# Altium schematic symbol library BrewController.SchLib: 19 symbols
Pins are listed as number, name and electrical type; pins without a type are passive.

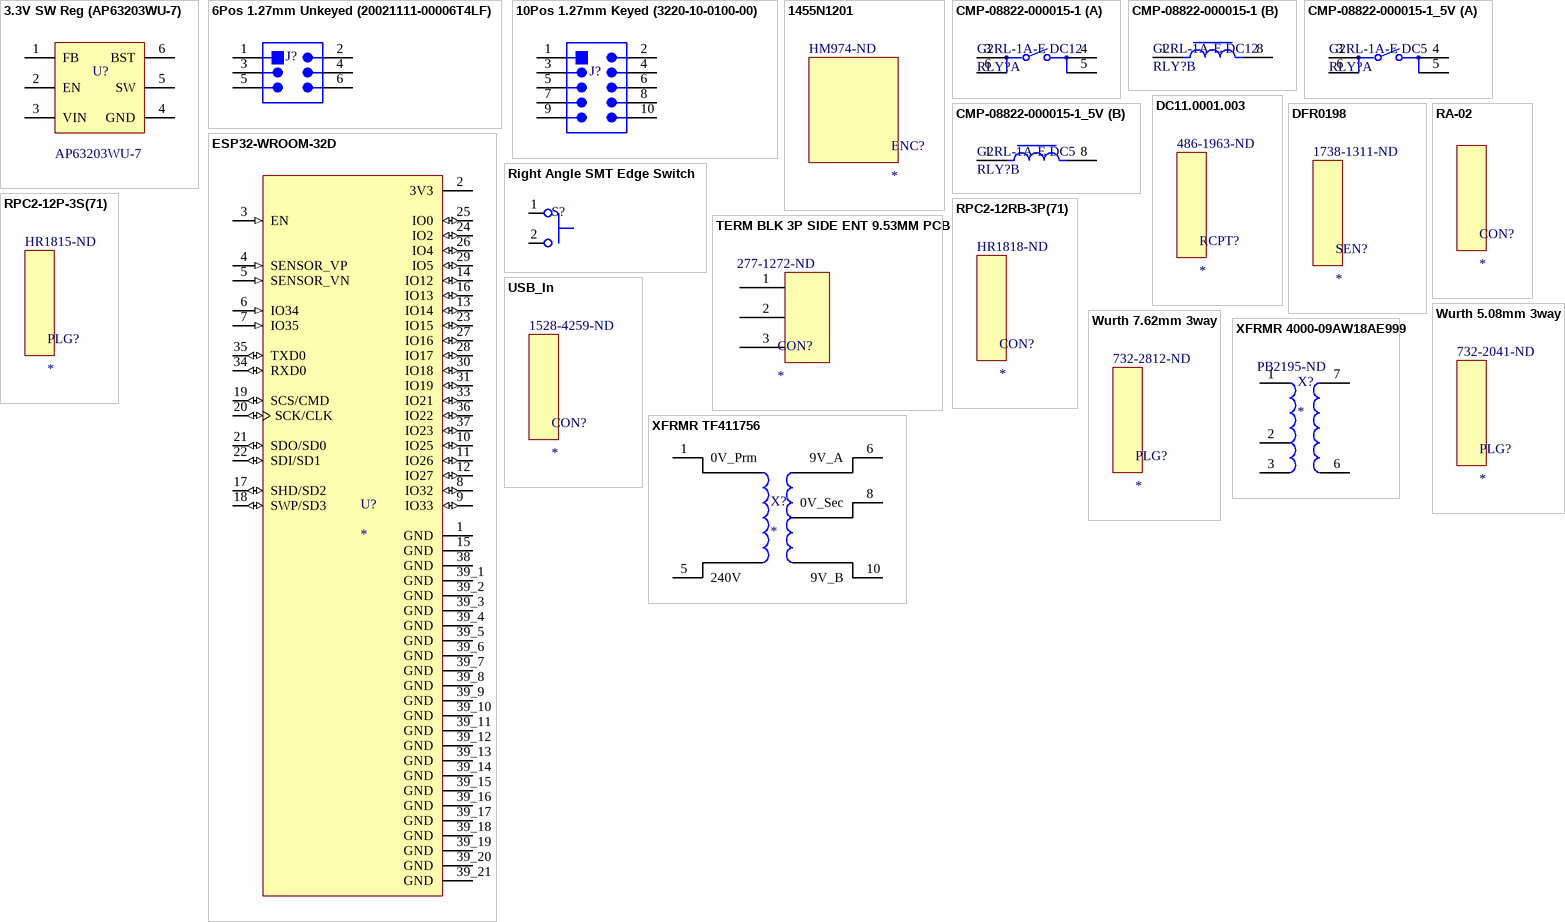
[diagram p0: symbols 3.3V SW Reg (AP63203WU-7) to XFRMR TF411756]

## 3.3V SW Reg (AP63203WU-7)
designator U?  Manufacturer Part Number 1: AP63203WU-7  (hidden comment: *)
AP63203 Series 3.3 V 2 A SMT Fixed Low IQ Synchronous Buck - TSOT-26; Manufacturer 1: Diodes; Supplier 1: Digi-Key; Supplier Part Number 1: AP63203WU-7DICT-ND; Stock 1: 6063; Pricing 1: 1=0.83000, 10=0.74500, 25=0.70720, 100=0.54290, 250=0.47976, 500=0.45450, 1000=0.35350 (USD); RoHS: No; ComponentLink1Description: https://datasheet.octopart.com/AP63203WU-7-Diodes-Inc.-datasheet-130008827.pdf; ComponentLink1URL: https://datasheet.octopart.com/AP63203WU-7-Diodes-Inc.-datasheet-130008827.pdf; ComponentLink2Description: https://sigma.octopart.com/138799930/technical_drawing/Diodes-Inc.-AP63203WU-7.pdf; ComponentLink2URL: https://sigma.octopart.com/138799930/technical_drawing/Diodes-Inc.-AP63203WU-7.pdf
footprint TSOT26
pins: 1 FB, 2 EN, 3 VIN, 4 GND, 5 SW, 6 BST

## 6Pos 1.27mm Unkeyed (20021111-00006T4LF)
designator J?  (value not drawn)
CONN HEADER 6POS UNSHD VERT T/H; Manufacturer 1: Amphenol FCI; Manufacturer Part Number 1: 20021111-00006T4LF; Number of Contacts: 6; Max Voltage Rating (AC): 125V; Insulation Resistance: 100MR; Connector Type: Male Pin,Header; Gender: Male; Contact Resistance: 30mR; Current Rating: 6A; Pitch: 1.27mm; Contact Post Length: 2.3mm; Row Spacing: 0.05inch; Supplier 1: Digi-Key; Supplier Part Number 1: 609-3710-ND; Stock 1: 10181; Pricing 1: 1=0.42000, 10=0.39200, 100=0.30080, 500=0.26160, 1000=0.21582, 5000=0.18966, 10000=0.17658 (USD); RoHS: Yes; Mount: Through Hole; Contact Plating: Gold; Housing Material: Thermoplastic; Contact Material: Nickel,Copper Alloy,Copper,Gold; Color: Black; Housing Color: Black; Min Operating Temperature: -40°C; Max Operating Temperature: 85°C; Termination: Solder; Number of Rows: 2; Packaging: Rail/Tube; Package Quantity: 153; Voltage Rating: 125V; Orientation: Straight; Number of Positions: 6; Length: 3.81mm; Depth: 3.4mm; Contact Mating Length: 0.12inch; REACH SVHC: No SVHC; Lead Free: Lead Free; ComponentLink1URL: https://datasheet.ciiva.com/1433/1079612-1433265.pdf?src-supplier=Element14; ComponentLink1Description: https://datasheet.ciiva.com/1433/1079612-1433265.pdf?src-supplier=Element14; ComponentLink2URL: https://datasheet.ciiva.com/10033/20021111-10033816.pdf?src-supplier=Avnet; ComponentLink2Description: https://datasheet.ciiva.com/10033/20021111-10033816.pdf?src-supplier=Avnet; ComponentLink3URL: https://datasheet.ciiva.com/409/20021111-409250.pdf?src-supplier=Digi-Key; ComponentLink3Description: https://datasheet.ciiva.com/409/20021111-409250.pdf?src-supplier=Digi-Key; ComponentLink4URL: https://datasheet.ciiva.com/5131/20021111-5131319.pdf?src-supplier=Mouser; ComponentLink4Description: https://datasheet.ciiva.com/5131/20021111-5131319.pdf?src-supplier=Mouser
footprint 6Pos_1.27_Keyed
pins: 1, 2, 3, 4, 5, 6

## 10Pos 1.27mm Keyed (3220-10-0100-00)
designator J?  (value not drawn)
CONN HEADER VERT 10POS 1.27MM; Manufacturer 1: CNC Tech; Manufacturer Part Number 1: 3220-10-0100-00; Connector Type: Male Pin; Number of Positions: 10; Pitch: 0.05inch; Supplier 1: Digi-Key; Supplier Part Number 1: 1175-1627-ND; Stock 1: 48941; Pricing 1: 1=0.58000, 10=0.54000, 100=0.41400, 500=0.36000, 1000=0.29700, 5000=0.26100, 10000=0.24300 (USD); RoHS: Yes; Mount: Through Hole; Contact Plating: Gold; Package Quantity: 3200; Packaging: Tray; Number of Rows: 2; Termination: Solder; Row Spacing: 0.05inch; ComponentLink1URL: https://datasheet.ciiva.com/18655/3220-xx-0100-00-18655342.pdf?src-supplier=Digi-Key; ComponentLink1Description: https://datasheet.ciiva.com/18655/3220-xx-0100-00-18655342.pdf?src-supplier=Digi-Key
footprint 10pos_1.27_Keyed
pins: 1, 2, 3, 4, 5, 6, 7, 8, 9, 10

## 1455N1201
designator ENC?  Supplier Part Number 1: HM974-ND
HAMMOND         1455N1201            Enclosure, 1455 Series, Extruded With Metal End Panels, PCB Box, 53 mm, 103 mm, 120 mm, Aluminium; Manufacturer: Hammond Manufacturing; Ratings: IP40; Supplier 1: Digi-Key; Manufacturer Part Number: 1455N1201; RoHS: Yes; Category: Enclosures; Stock 1: 42; Case/Package: Metal; Weight: 0.66lb; Color: Clear,Black,Natural; Material: Aluminium,Metal; Housing Material: Aluminium; Body Material: Aluminium; Package Quantity: 1; Length: 4.724inch; Height: 2.087inch; Width: 4.06inch; Thickness: 0.06inch; REACH SVHC: No SVHC; ComponentLink1URL: https://datasheet.ciiva.com/4630/1455n1201-83616-4630121.pdf?src-supplier=Mouser; ComponentLink1Description: https://datasheet.ciiva.com/4630/1455n1201-83616-4630121.pdf?src-supplier=Mouser; ComponentLink2URL: https://datasheet.ciiva.com/20197/30-1572-20197097.pdf?src-supplier=Rapid+Electronics; ComponentLink2Description: https://datasheet.ciiva.com/20197/30-1572-20197097.pdf?src-supplier=Rapid+Electronics

## CMP-08822-000015-1
designator RLY?, comment G2RL-1A-E DC12
RELAY GEN PURPOSE SPST 16A 12V; Manufacturer: Omron; Manufacturer Part Number: G2RL-1A-E DC5; Number Of Contacts: 1; Coil Power: 400mW; Coil Type: Non-Latching; Coil Current: 80mA; Coil Voltage: 5V; Throw Configuration: SPST-NO; Coil Resistance: 62.5Ω; Current Rating: 16A; Ambient Temperature Range Low: -40°C; ComponentLink2URL: https://omronfs.omron.com/en_US/ecb/products/pdf/en-g2rl.pdf; Octopart: https://octopart.com/g2rl-1a-e-dc5-omron-797358; Automotive: No; Device Class L2: Relays; Ambient Temperature Range High: +85°C; Temperature Range Low: -40°C; RoHS: TRUE; ComponentLink2Description: Datasheet; Lead Free: Yes; Device Class L1: Electromechanical; Category: Relay; Temperature: -40°C to +85°C; Digikey Description: RELAY GEN PURPOSE SPST 16A 5V; Height: 15.7mm; Device Class L3: Power Relays; Temperature Range High: +85°C; Package: 0; Switching Current: 16A; Mouser Description: Power Relay 5VDC 16A SPST-NO (( 29mm 12.7mm 15.7mm)) Through Hole
footprint FP-G2RL-1A-E_DC12-MFG
part A pins: 3, 4, 5, 6
part B pins: 1, 8

## CMP-08822-000015-1_5V
designator RLY?, comment G2RL-1A-E DC5
RELAY GEN PURPOSE SPST 16A 5V; Manufacturer: Omron; Number Of Contacts: 1; Coil Power: 400mW; Coil Type: Non-Latching; Coil Current: 80mA; Throw Configuration: SPST-NO; Coil Resistance: 62.5Ω; Current Rating: 16A; Ambient Temperature Range Low: -40°C; ComponentLink2URL: https://omronfs.omron.com/en_US/ecb/products/pdf/en-g2rl.pdf; Octopart: https://octopart.com/g2rl-1a-e-dc5-omron-797358; Automotive: No; Device Class L2: Relays; Ambient Temperature Range High: +85°C; Temperature Range Low: -40°C; RoHS: TRUE; ComponentLink2Description: Datasheet; Lead Free: Yes; Device Class L1: Electromechanical; Coil Voltage: 5V; Category: Relay; Manufacturer Part Number: G2RL-1A-E DC5; Temperature: -40°C to +85°C; Digikey Description: RELAY GEN PURPOSE SPST 16A 5V; Height: 15.7mm; Device Class L3: Power Relays; Temperature Range High: +85°C; Package: 0; Switching Current: 16A; Mouser Description: Power Relay 5VDC 16A SPST-NO (( 29mm 12.7mm 15.7mm)) Through Hole
footprint FP-G2RL-1A-E_DC12-MFG
part A pins: 3, 4, 5, 6
part B pins: 1, 8

## DC11.0001.003
designator RCPT?  Supplier Part Number 1: 486-1963-ND
Plug C14 Faston 4.8 x 0.8 mm 10 A/250 VAC black Screw mounting L + N + PE, DC11.0001.003, Schurter; Number of Contacts: 3; Max Voltage Rating (AC): 250V; Current Rating: 12A; Gender: Male; Fuse: No; Connector Type: Receptacle; Number of Ports: 1; Throw Configuration: SPST; Ratings: IP40; Approvals: cULus,ENEC,CCC; Supplier 1: Digi-Key; Manufacturer: Schurter; Manufacturer Part Number: DC11.0001.003; RoHS: Yes; Category: Power Connectors; Stock 1: 1159; Mount: Panel,Flanges,Screw,Snap in; Case/Package: Module; Weight: 0.599657oz; Housing Material: Thermoplastic; Color: Black; Min Operating Temperature: -25°C; Max Operating Temperature: 70°C; Termination: Quick Connect; Voltage Rating (AC): 250V; Orientation: Straight; Number of Positions: 3; Current: 12A; Voltage: 250V; Package Quantity: 50; Voltage Rating: 250V; Voltage Rating (DC): 250V; Max Current Rating: 12A; Packaging: Bulk; Number of Poles: 1; Type: Switch; Length: 44mm; Depth: 36.5mm; Radiation Hardening: No; REACH SVHC: No SVHC; Flammability Rating: UL94 V-0; Lead Free: Lead Free; ComponentLink1URL: https://datasheet.ciiva.com/6926/typ-dc11-6926800.pdf?src-supplier=Digi-Key; ComponentLink1Description: https://datasheet.ciiva.com/6926/typ-dc11-6926800.pdf?src-supplier=Digi-Key; ComponentLink2URL: https://datasheet.ciiva.com/11728/0900766b8050470e-11728225.pdf?src-supplier=RSComponents; ComponentLink2Description: https://datasheet.ciiva.com/11728/0900766b8050470e-11728225.pdf?src-supplier=RSComponents; ComponentLink3URL: https://datasheet.ciiva.com/16089/57typ-wire-harness-16089619.pdf?src-supplier=Onlinecomponents.com; ComponentLink3Description: https://datasheet.ciiva.com/16089/57typ-wire-harness-16089619.pdf?src-supplier=Onlinecomponents.com; ComponentLink4URL: https://datasheet.ciiva.com/3147/typ-wire-harness-3147526.pdf?src-supplier=Avnet; ComponentLink4Description: https://datasheet.ciiva.com/3147/typ-wire-harness-3147526.pdf?src-supplier=Avnet; ComponentLink5URL: https://datasheet.ciiva.com/3345/zjdc11-data-e-3345370.pdf?src-supplier=Distrelec; ComponentLink5Description: https://datasheet.ciiva.com/3345/zjdc11-data-e-3345370.pdf?src-supplier=Distrelec; ComponentLink6URL: https://datasheet.ciiva.com/16645/typ-wire-harness-16645711.pdf?src-supplier=Avnet+Europe; ComponentLink6Description: https://datasheet.ciiva.com/16645/typ-wire-harness-16645711.pdf?src-supplier=Avnet+Europe; ComponentLink7URL: https://datasheet.ciiva.com/14570/70080071-14570935.pdf?src-supplier=Allied+Electronics; ComponentLink7Description: https://datasheet.ciiva.com/14570/70080071-14570935.pdf?src-supplier=Allied+Electronics; ComponentLink8URL: https://datasheet.ciiva.com/30127/typ-dc11-30127048.pdf?src-supplier=Onlinecomponents.com; ComponentLink8Description: https://datasheet.ciiva.com/30127/typ-dc11-30127048.pdf?src-supplier=Onlinecomponents.com; ComponentLink9URL: https://datasheet.ciiva.com/16346/typ-dc11-16346954.pdf?src-supplier=Future+Electronics; ComponentLink9Description: https://datasheet.ciiva.com/16346/typ-dc11-16346954.pdf?src-supplier=Future+Electronics; ComponentLink10URL: https://datasheet.ciiva.com/4582/typ-dc11-4582700.pdf?src-supplier=Mouser; ComponentLink10Description: https://datasheet.ciiva.com/4582/typ-dc11-4582700.pdf?src-supplier=Mouser; ComponentLink11URL: https://datasheet.ciiva.com/8067/1712870-8067007.pdf?src-supplier=Element14; ComponentLink11Description: https://datasheet.ciiva.com/8067/1712870-8067007.pdf?src-supplier=Element14
footprint DC11.0001.003

## DFR0198
designator SEN?  Supplier Part Number 1: 1738-1311-ND
Waterproof DS18B20 Digital Temperature Sensor for Arduino; Manufacturer: DFRobot; Manufacturer Part Number: DFR0198; Supplier 1: Digi-Key; RoHS: No; Category: Temperature and Humidity Sensors; Stock 1: 602; Min Operating Temperature: -55°C; Max Operating Temperature: 125°C; ComponentLink1URL: https://media.digikey.com/pdf/Data%20Sheets/DFRobot%20PDFs/DFR0198_Web.pdf?src-supplier=Digi-Key; ComponentLink1Description: https://media.digikey.com/pdf/Data%20Sheets/DFRobot%20PDFs/DFR0198_Web.pdf?src-supplier=Digi-Key

## ESP32-WROOM-32D
designator U?
ESP32-WROOM-32D; Manufacturer 1: Espressif Systems; Interface: I2C,SPI,GPIO,PWM,SDIO,UART; Frequency: 2.5GHz; Data Rate: 150Mbps; Sensitivity: -98dBm; Memory Size: 536KB; Supplier 1: Digi-Key; Supplier Part Number 1: 1904-1023-1-ND; Manufacturer Part Number 1: ESP32-WROOM-32D; Stock 1: 1335; Pricing 1: 1=3.80000 (USD); RoHS: No; Mount: Surface Mount; Case/Package: SMD/SMT; Min Operating Temperature: -40°C; Max Operating Temperature: 85°C; Packaging: Cut Tape; ComponentLink1URL: https://www.espressif.com/sites/default/files/documentation/esp32-wroom-32d_esp32-wroom-32u_datasheet_en.pdf?src-supplier=Digi-Key; ComponentLink1Description: https://www.espressif.com/sites/default/files/documentation/esp32-wroom-32d_esp32-wroom-32u_datasheet_en.pdf?src-supplier=Digi-Key
footprint *MODULE_ESP32-WROOM-32D_ESP32-WROOM-32D(Primary)
pins: 1 GND (power), 2 3V3 (power), 3 EN (in), 4 SENSOR_VP (in), 5 SENSOR_VN (in), 6 IO34 (in), 7 IO35 (in), 8 IO32 (io), 9 IO33 (io), 10 IO25 (io), 11 IO26 (io), 12 IO27 (io), 13 IO14 (io), 14 IO12 (io), 15 GND (power), 16 IO13 (io), 17 SHD/SD2 (io), 18 SWP/SD3 (io), 19 SCS/CMD (io), 20 SCK/CLK (io), 21 SDO/SD0 (io), 22 SDI/SD1 (io), 23 IO15 (io), 24 IO2 (io), 25 IO0 (io), 26 IO4 (io), 27 IO16 (io), 28 IO17 (io), 29 IO5 (io), 30 IO18 (io), 31 IO19 (io), 33 IO21 (io), 34 RXD0 (io), 35 TXD0 (io), 36 IO22 (io), 37 IO23 (io), 38 GND (power), 39_1 GND (power), 39_2 GND (power), 39_3 GND (power), 39_4 GND (power), 39_5 GND (power), 39_6 GND (power), 39_7 GND (power), 39_8 GND (power), 39_9 GND (power), 39_10 GND (power), 39_11 GND (power), 39_12 GND (power), 39_13 GND (power), 39_14 GND (power), 39_15 GND (power), 39_16 GND (power), 39_17 GND (power), 39_18 GND (power), 39_19 GND (power), 39_20 GND (power), 39_21 GND (power)

## RA-02
designator CON?
Panel mount mains output socket
footprint RA-02

## Right Angle SMT Edge Switch
designator S?  (value not drawn)
RIGHT ANGLE SMT TACT SWITCH 2.0M; Manufacturer 1: E-Switch; Manufacturer Part Number 1: TL4110AF160Q; Mechanical Life: 300000Cycles; Throw Configuration: SPST; Illumination Type: Non-Illuminated; Switch Function: Off-Mom; Actuator Type: Standard; Operating Force: 160gf; Switch Travel: 0.13mm; Supplier 1: Digi-Key; Supplier Part Number 1: EG5545CT-ND; RoHS: No; Category: Tactile Switches; Stock 1: 4401; Pricing 1: 1=0.70000, 10=0.67200, 25=0.64640, 100=0.56090, 250=0.51184, 500=0.47564, 1000=0.42653, 2500=0.40068 (USD); Mount: Edge; Min Operating Temperature: -40°C; Max Operating Temperature: 85°C; Packaging: Tape and Reel; Termination: Gull Wing; ComponentLink1URL: https://media.digikey.com/pdf/Data%20Sheets/E-Switch%20PDFs/TL4110_Series_Tact_Switch.pdf?src-supplier=Digi-Key; ComponentLink1Description: https://media.digikey.com/pdf/Data%20Sheets/E-Switch%20PDFs/TL4110_Series_Tact_Switch.pdf?src-supplier=Digi-Key
footprint TL4110 Edge Connector
pins: 1, 2

## RPC2-12P-3S(71)
designator PLG?  Supplier Part Number 1: HR1815-ND
CONN PLUG 3 POS W/SOCKETS; Manufacturer: Hirose; Manufacturer Part Number: RPC2-12P-3S(71); Number of Positions: 3; Current Rating: 5A; Voltage Rating: 250V; Supplier 1: Digi-Key; RoHS: Yes; Category: Circular Connectors; Stock 1: 1316; Mount: Free Hanging,Cable; Color: Blue; Contact Material: Bronze; Contact Plating: Silver; Insulation Material: Plastic; Shell Material: Plastic; Min Operating Temperature: -10°C; Max Operating Temperature: 60°C; Termination: Solder; Connector Type: Plug; Package Quantity: 50; Fastening Type: Push,Pull; Packaging: Tray; Number of Contacts: 3; Contact Gender: Female; Orientation: Straight; Radiation Hardening: No; Lead Free: Lead Free; ComponentLink1URL: https://datasheet.ciiva.com/549/e11300018-549107.pdf?src-supplier=Digi-Key; ComponentLink1Description: https://datasheet.ciiva.com/549/e11300018-549107.pdf?src-supplier=Digi-Key; ComponentLink2URL: https://datasheet.ciiva.com/3103/e11300018-3103307.pdf?src-supplier=Avnet; ComponentLink2Description: https://datasheet.ciiva.com/3103/e11300018-3103307.pdf?src-supplier=Avnet; ComponentLink3URL: https://datasheet.ciiva.com/16752/e11300018-16752447.pdf?src-supplier=Avnet+Europe; ComponentLink3Description: https://datasheet.ciiva.com/16752/e11300018-16752447.pdf?src-supplier=Avnet+Europe
footprint RPC2-12RB-3P(71)

## RPC2-12RB-3P(71)
designator CON?  Supplier Part Number 1: HR1818-ND
CONN RECEPT 3 POS W/PINS; Manufacturer: Hirose; Manufacturer Part Number: RPC2-12RB-3P(71); Body Material: Nylon,Polyamide; Number of Positions: 3; Connector Type: Receptacle,Power,Standard; Strain Relief: No (Without); Voltage Rating (DC): 250V; Max Current Rating: 5A; Gender: Female; Supplier 1: Digi-Key; RoHS: Yes; Category: Circular Connectors; Stock 1: 1446; Mount: Panel,Flanges; Color: Blue; Contact Plating: Silver; Contact Material: Brass; Insulation Material: Plastic; Housing Material: Nylon; Shell Material: Plastic; Min Operating Temperature: -10°C; Max Operating Temperature: 60°C; Termination: Solder; Orientation: Straight; Package Quantity: 200; Fastening Type: Push,Pull; Packaging: Tray; Number of Contacts: 3; Voltage Rating: 250V; Current Rating: 5A; Contact Gender: Male; Length: 22.5mm; Depth: 19mm; Radiation Hardening: No; Lead Free: Lead Free; REACH SVHC: No SVHC; ComponentLink1URL: https://datasheet.ciiva.com/23583/26784-23583632.pdf?src-supplier=Newark; ComponentLink1Description: https://datasheet.ciiva.com/23583/26784-23583632.pdf?src-supplier=Newark; ComponentLink2URL: https://datasheet.ciiva.com/11736/0900766b80fd13c3-11736797.pdf?src-supplier=RSComponents; ComponentLink2Description: https://datasheet.ciiva.com/11736/0900766b80fd13c3-11736797.pdf?src-supplier=RSComponents; ComponentLink3URL: https://datasheet.ciiva.com/575/e11300018-575862.pdf?src-supplier=Digi-Key; ComponentLink3Description: https://datasheet.ciiva.com/575/e11300018-575862.pdf?src-supplier=Digi-Key; ComponentLink4URL: https://datasheet.ciiva.com/7651/26784-7651897.pdf?src-supplier=Element14; ComponentLink4Description: https://datasheet.ciiva.com/7651/26784-7651897.pdf?src-supplier=Element14; ComponentLink5URL: https://datasheet.ciiva.com/16752/e11300018-16752460.pdf?src-supplier=Avnet+Europe; ComponentLink5Description: https://datasheet.ciiva.com/16752/e11300018-16752460.pdf?src-supplier=Avnet+Europe

## TERM BLK 3P SIDE ENT 9.53MM PCB
designator CON?  Supplier Part Number 1: 277-1272-ND
TERM BLK 3P SIDE ENT 9.53MM PCB; Manufacturer: Phoenix Contact; Manufacturer Part Number: 1714984; Max Supply Voltage: 690V; Number of Positions: 3; Max Current Rating: 32A; Voltage Rating: 1kV; Number of Levels: 1; Current: 30A; Voltage: 600V; Connector Type: PCB,Terminal Block; Gender: Male; Stripping Length: 8mm; Wire Gauge (Max): 24AWG; Pitch: 9.5mm; Approvals: UL,CSA,cULus; Supplier 1: Digi-Key; RoHS: Yes; Category: Terminal Blocks; Stock 1: 5148; Mount: Through Hole; Number of Pins: 3; Weight: 0.336161oz; Housing Material: Polyamide; Contact Material: Tin; Housing Color: Green; Color: Green; Insulation Material: Nylon; Material: Polyamide; Package Quantity: 50; Packaging: Bulk; Number of Circuits: 3; Orientation: Straight; Number of Rows: 1; Current Rating: 32A; Number of Poles: 3; Termination: Screw; Number of Positions Per Level: 3; Number of Contacts: 3; Length: 28.52mm; Height: 21.5mm; Wire Gauge (Min): 24AWG; Wire/Cable Gauge: 24AWG; Width: 12.5mm; Depth: 12.5mm; Radiation Hardening: No; REACH SVHC: No SVHC; Flammability Rating: UL94 V-0; Lead Free: Lead Free; ComponentLink1URL: https://datasheet.ciiva.com/15169/getdatasheetpartid-136936-15169497.pdf?src-supplier=Verical; ComponentLink1Description: https://datasheet.ciiva.com/15169/getdatasheetpartid-136936-15169497.pdf?src-supplier=Verical; ComponentLink2URL: https://datasheet.ciiva.com/16071/1714984-16071962.pdf?src-supplier=Onlinecomponents.com; ComponentLink2Description: https://datasheet.ciiva.com/16071/1714984-16071962.pdf?src-supplier=Onlinecomponents.com; ComponentLink3URL: https://datasheet.ciiva.com/823/1714984-823804.pdf?src-supplier=Digi-Key; ComponentLink3Description: https://datasheet.ciiva.com/823/1714984-823804.pdf?src-supplier=Digi-Key; ComponentLink4URL: https://datasheet.ciiva.com/1118/100944-1118425.pdf?src-supplier=Element14; ComponentLink4Description: https://datasheet.ciiva.com/1118/100944-1118425.pdf?src-supplier=Element14
footprint CON Phoenix 1714984
pins: 1, 2, 3

## USB_In
designator CON?  Supplier Part Number 1: 1528-4259-ND
Panel mount mains output socket; Manufacturer: Adafruit Industries; Manufacturer Part Number: 4259; Supplier 1: Digi-Key; RoHS: No; Stock 1: 132
footprint Ada4259

## Wurth 5.08mm 3way
designator PLG?  Supplier Part Number 1: 732-2041-ND
TERM BLOCK PLUG 3POS STR 5.08MM; Manufacturer: Wurth Electronics; Manufacturer Part Number: 691351500003; Current Rating: 20A; Number of Positions Per Level: 3; Number of Levels: 1; Voltage: 300V; Pitch: 0.2inch; Wire/Cable Gauge: 24AWG; Wire Gauge (Min): 12AWG; Supplier 1: Digi-Key; RoHS: Yes; Category: Terminal Blocks; Stock 1: 1970; Mount: Free Hanging; Contact Material: Brass; Color: Green; Termination: Screw; Current: 20A; Number of Contacts: 3; Package Quantity: 250; Packaging: Bulk; Voltage Rating: 300V; Length: 18.2mm; Width: 15.24mm; Wire Gauge (Max): 24AWG; REACH SVHC: Unknown; ComponentLink1URL: https://datasheet.ciiva.com/796/6913515000xx-796335.pdf?src-supplier=Digi-Key; ComponentLink1Description: https://datasheet.ciiva.com/796/6913515000xx-796335.pdf?src-supplier=Digi-Key

## Wurth 7.62mm 3way
designator PLG?  Supplier Part Number 1: 732-2812-ND
Socket 3 Poles, 7.62 mm Pitch, 691351400003, Würth Elektronik; Manufacturer: Wurth Electronics; Number of Contacts: 3; Voltage Rating: 300V; Number of Levels: 1; Current: 20A; Wire/Cable Gauge: 24AWG; Pitch: 0.3inch; Wire Gauge (Min): 12AWG; Supplier 1: Digi-Key; Manufacturer Part Number: 691351400003; RoHS: Yes; Category: Terminal Blocks; Stock 1: 167; Mount: Free Hanging; Contact Material: Brass; Color: Green; Termination: Screw; Package Quantity: 130; Packaging: Bulk; Number of Positions Per Level: 3; Voltage: 300V; Current Rating: 20A; Length: 15.1mm; Width: 20.86mm; Wire Gauge (Max): 24AWG; REACH SVHC: Unknown; ComponentLink1URL: https://datasheet.ciiva.com/796/6913514000xx-796220.pdf?src-supplier=Digi-Key; ComponentLink1Description: https://datasheet.ciiva.com/796/6913514000xx-796220.pdf?src-supplier=Digi-Key

## XFRMR 4000-09AW18AE999
designator X?  Supplier Part Number 1: PB2195-ND
TE Connectivity Chassis Current Transformer; Manufacturer Part Number: 4000-09AW18K999; Power Rating: 50W; Nominal Primary Voltage: 240V; Nominal Secondary Voltage: 24V; Element Configuration: Single; Supplier 1: Digi-Key; Manufacturer: TE Connectivity; RoHS: Yes; Category: Power Products; Stock 1: 39; Mount: Chassis Mount,Flanges; Number of Pins: 5; Packaging: Bulk; Max Power Dissipation: 50W; Termination: Wire Leads; Package Quantity: 100; Primary Winding(s): Single; Secondary Winding(s): Single; Length: 90.47mm; Height - Seated (Max): 55.58mm; Width: 66.55mm; Lead Free: Contains Lead; ELV: Compliant; ComponentLink1URL: https://datasheet.ciiva.com/2935/eng-cd-4000-09aw18k999-c-2935632.pdf?src-supplier=Digi-Key; ComponentLink1Description: https://datasheet.ciiva.com/2935/eng-cd-4000-09aw18k999-c-2935632.pdf?src-supplier=Digi-Key; ComponentLink2URL: https://datasheet.ciiva.com/30109/eng-ds-1308242-trans-0303-30109664.pdf?src-supplier=Onlinecomponents.com; ComponentLink2Description: https://datasheet.ciiva.com/30109/eng-ds-1308242-trans-0303-30109664.pdf?src-supplier=Onlinecomponents.com; ComponentLink3URL: https://datasheet.ciiva.com/30486/0900766b81216d6a-30486809.pdf?src-supplier=RSComponents; ComponentLink3Description: https://datasheet.ciiva.com/30486/0900766b81216d6a-30486809.pdf?src-supplier=RSComponents; ComponentLink4URL: https://datasheet.ciiva.com/30053/eng-ds-1308242-trans-0303-30053359.pdf?src-supplier=Onlinecomponents.com; ComponentLink4Description: https://datasheet.ciiva.com/30053/eng-ds-1308242-trans-0303-30053359.pdf?src-supplier=Onlinecomponents.com
footprint XFRMR 4000-09AW18AE999 (PWR XFMR LAMINATED 50VA CHAS MT)
pins: 1 COM, 2 208V, 3 240V, 6 24V, 7 0V

## XFRMR TF411756
designator X?
18V Centre Tapped (9V-0-9V) PCB Mount Transformer (TF411756)Jaycar
footprint XFRMR TF411756
pins: 1 0V_Prm, 5 240V, 6 9V_A, 8 0V_Sec, 10 9V_B